# Altium schematic symbol library Galio-complete.SchLib: 51 symbols
Pins are listed as number, name and electrical type; pins without a type are passive.

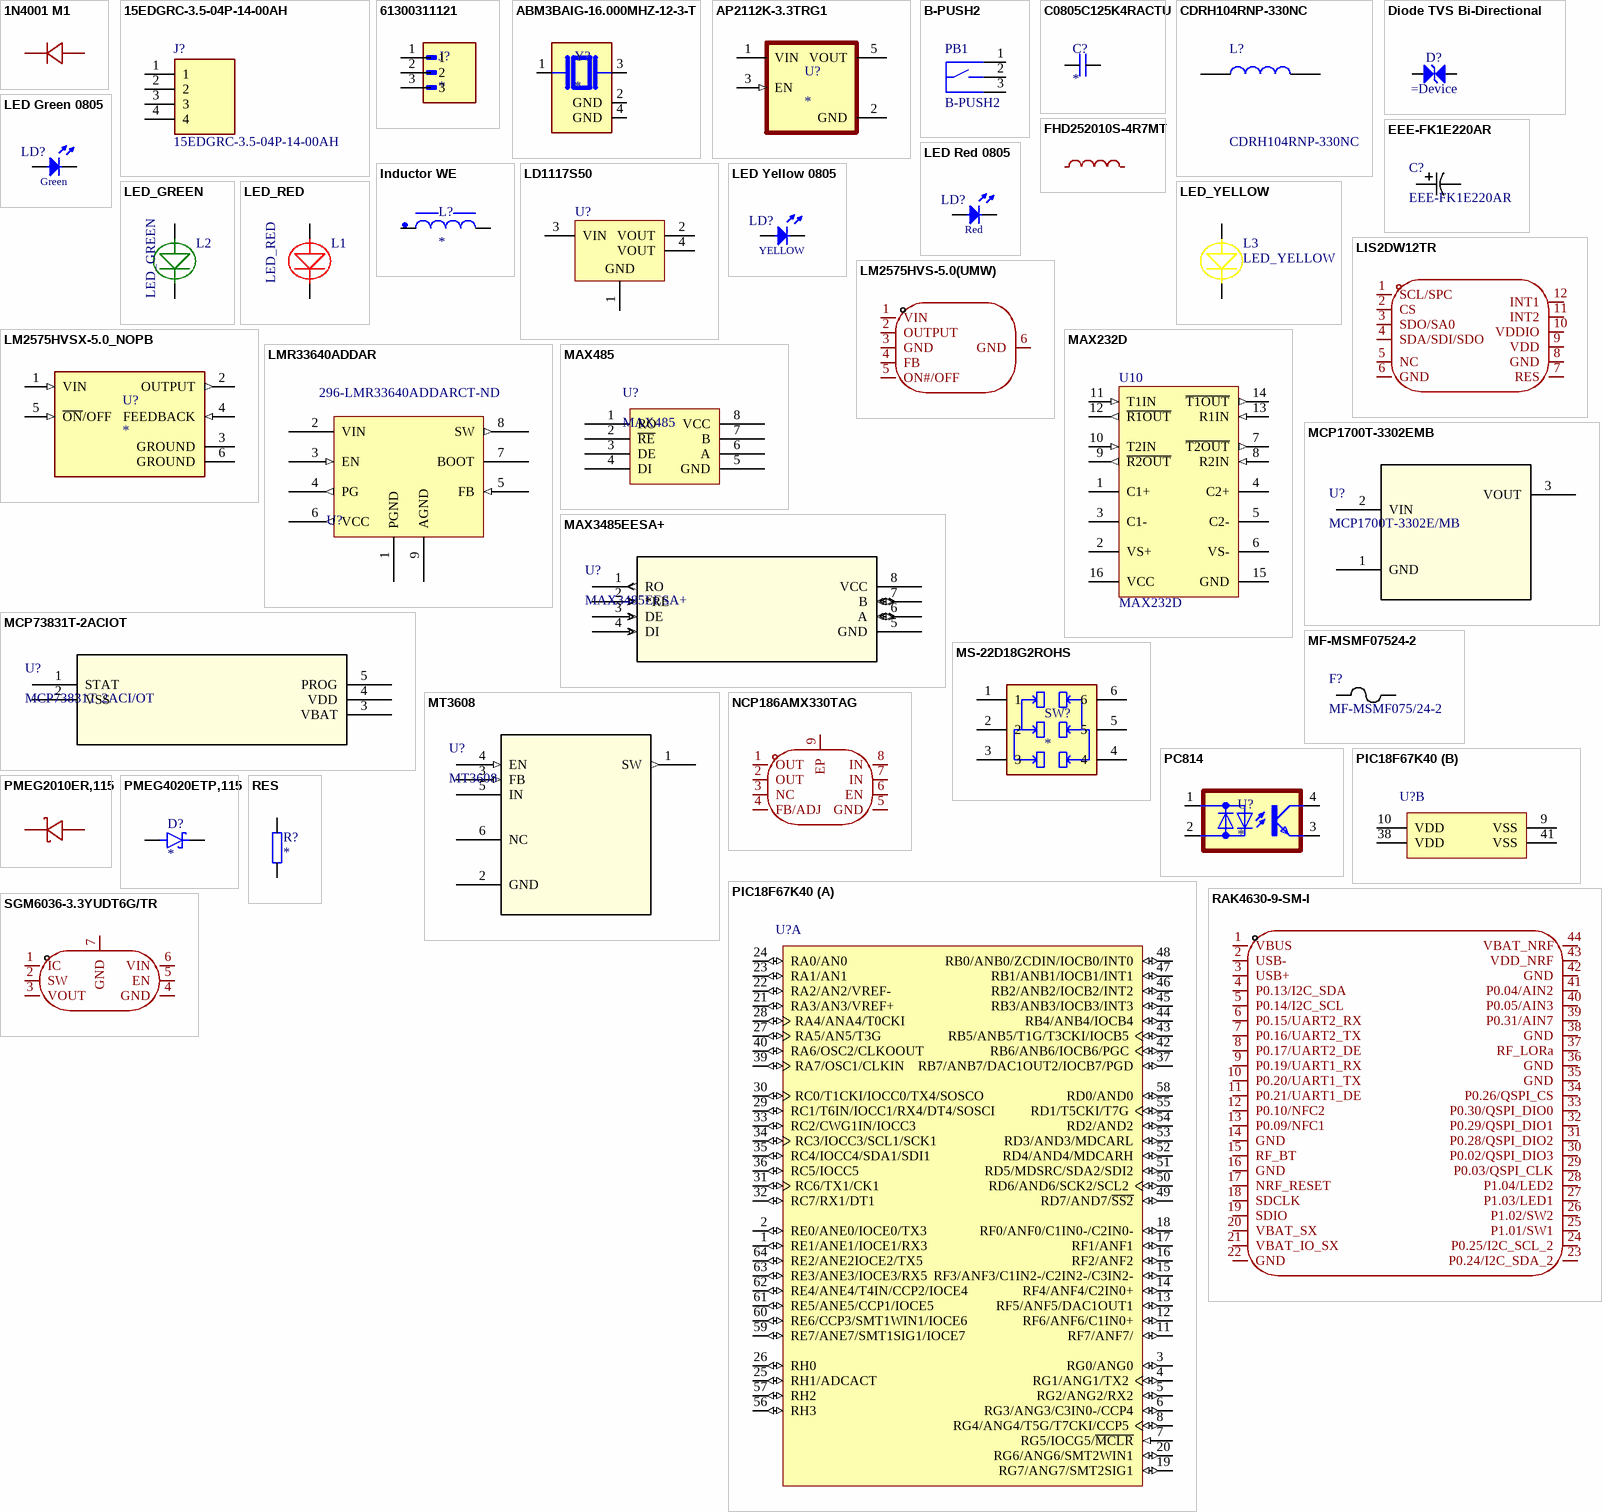
[diagram p0: symbols 1N4001 M1 to SGM6036-3.3YUDT6G/TR]

## 1N4001 M1
designator D?  (value not drawn)
Manufacturer: JSMSEMI(杰盛微); Add into BOM: yes; Diode Configuration: Independent; Voltage - Forward(Vf@If): 1V@1A; Voltage - DC Reverse(Vr): 50V; Current - Rectified: 1A; Reverse Leakage Current (Ir): 5uA@50V; Operating Junction Temperature Range: -55℃~+150℃; Symbol: 1N4001 M1; Device: 1N4001 M1; LCSC Part Name: 50V 1A; Supplier Part: C20754789; Manufacturer Part: 1N4001 M1; Supplier Footprint: SMA; JLCPCB Part Class: Extended Part; Datasheet: https://item.szlcsc.com/datasheet/1N4001%2520M1/22168790.html; Supplier: LCSC; Convert to PCB: yes
footprint SMA_L4.5-W2.7-LS5.2-RD
3D model SMA_L4.5-W2.7-LS5.2-RD
pins: 1 K, 2 A

## 15EDGRC-3.5-04P-14-00AH
designator J?
Pluggable terminal block; 3.5mm; ways: 4; angled 90; socket; male; Manufacturer_Name: Degson; Geometry.Height: 7.15mm; Manufacturer_Part_Number: 15EDGRC-3.5-04P-14-00AH; Mouser Part Number: *; Mouser Price/Stock: *; Arrow Part Number: *; Arrow Price/Stock: *; Datasheet Link: https://asset.conrad.com/media10/add/160267/c1/-/en/001327338DS01/datasheet-1327338-degson-socket-enclosure-pcb-total-number-of-pins-4-contact-spacing-35-mm-15edgrc-35-04p-14-00ah-1-pcs.pdf
footprint SHDRRA4W80P0X350_1X4_1480X920X715P
pins: 1, 2, 3, 4

## 61300311121
designator J?
MP: 61300311121; Package: None; Price: None; Value: *; Availability: Unavailable
footprint WURTH_61300311121
pins: 1, 2, 3

## ABM3BAIG-16.000MHZ-12-3-T
designator Y?
16 MHz ±20ppm Crystal 12pF 50 Ohms 4-SMD, No Lead; MF: Abracon LLC; MP: ABM3BAIG-16.000MHZ-12-3-T; SnapEDA_Link: https://www.snapeda.com/parts/ABM3BAIG-16.000MHZ-12-3-T/Abracon+LLC/view-part/?ref=snap; Package: SMD-4 Abracon; Value: *; Check_prices: https://www.snapeda.com/parts/ABM3BAIG-16.000MHZ-12-3-T/Abracon+LLC/view-part/?ref=eda
footprint XTAL_ABM3BAIG-16.000MHZ-12-3-T
pins: 1, 2 GND (power), 3 2, 4 GND (power)

## AP2112K-3.3TRG1
designator U?
Linear Voltage Regulator IC Positive Fixed 1 Output 600mA SOT-25; MF: Diodes Inc.; MP: AP2112K-3.3TRG1; Value: *; Purchase-URL: https://pricing.snapeda.com/search/part/AP2112K-3.3TRG1/?ref=eda; Package: SOT-753 Diodes Inc.; Availability: In Stock; Check_prices: https://www.snapeda.com/parts/AP2112K-3.3TRG1/Diodes+Inc./view-part/?ref=eda; Price: None; SnapEDA_Link: https://www.snapeda.com/parts/AP2112K-3.3TRG1/Diodes+Inc./view-part/?ref=snap
footprint SOT95P285X140-5N
pins: 1 VIN (power), 2 GND (power), 3 EN (in), 5 VOUT (power)

## B-PUSH2
designator PB1
footprint TS35CA (TACT SWITCHES SMT - SUBMINIATURE)
pins: 1, 2, 3

## C0805C125K4RACTU
designator C?
CAPACITOR, 0805; MF: KEMET; MP: C0805C125K4RACTU; SnapEDA_Link: https://www.snapeda.com/parts/C0805C125K4RACTU/Kemet/view-part/?ref=snap; Package: 805-2 KEMET; Value: *; Check_prices: https://www.snapeda.com/parts/C0805C125K4RACTU/Kemet/view-part/?ref=eda
footprint CAPC2012X110N
pins: 1, 2

## CDRH104RNP-330NC
designator L?
Power Inductors - SMD 33uH 2.2A,33 H Shielded Inductor 2.2 A 93mOhm Max Nonstandard; Manufacturer_Name: Sumida; Geometry.Height: 4mm; Manufacturer_Part_Number: CDRH104RNP-330NC; Mouser Part Number: 851-CDRH104RNP-330NC; Mouser Price/Stock: https://www.mouser.co.uk/ProductDetail/Sumida/CDRH104RNP-330NC?qs=KlpbM3lUcZybZvlhH7RqIQ%3D%3D; Arrow Part Number: CDRH104RNP-330NC; Arrow Price/Stock: https://www.arrow.com/en/products/cdrh104rnp-330nc/sumida?region=nac; Datasheet Link: https://products.sumida.com/products/pdf/CDRH104R.pdf?t=1684247558
footprint CDRH104RNP330NC
pins: 1, 2

## Diode TVS Bi-Directional
designator D?
Transient Voltage Suppressor Diode (Bi-Directional)
footprint DIOM5126X229N
pins: 1 C, 2 A

## EEE-FK1E220AR
designator C?
Capacitor electrolítico aluminio SMD; Manufacturer_Name: Panasonic; Copyright: Copyright (C) 2026 Ultra Librarian. All rights reserved.; Manufacturer_Part_Number: EEE-FK1E220AR
footprint CAP_EEFK_C_PAN
pins: 1, 2

## FHD252010S-4R7MT
designator L?, comment 4.7uH  (value not drawn)
Manufacturer: cjiang(长江微电); Symbol: FHD252010S-4R7MT; Add into BOM: yes; Tolerance: ±20%; Saturation Current (Isat): 1.5A; DC Resistance (DCR): 255mΩ; Device: FHD252010S-4R7MT; LCSC Part Name: 4.7uH ±20% 1.5A; Supplier Part: C602005; Manufacturer Part: FHD252010S-4R7MT; Supplier Footprint: 1008; JLCPCB Part Class: Extended Part; Datasheet: https://atta.szlcsc.com/upload/public/pdf/source/20200609/C601990_BCEA243EC4DA0A9A288AA78A6DFB48A5.pdf; Supplier: LCSC; Convert to PCB: yes; Value: 4.7uH; Type: -; Ratings: -
footprint IND-SMD_L2.5-W2.0-VLS252012CX-150M
3D model IND-SMD_L2.5-W2.0-VLS252012CX-150M
pins: 1, 2

## Inductor WE
designator L?
WE-XHMI SMD 6030 3.3uH - WE-XHMI SMD 6060 6.8uH (SAME FOOTPRINT); MF: WÃ¼rth Elektronik; MP: 74439346068; SnapEDA_Link: https://www.snapeda.com/parts/74439346068/W%25C3%25BCrth+Elektronik+Midcom/view-part/?ref=snap; Package: Nonstandard WÃ¼rth Elektronik; Value: *; Check_prices: https://www.snapeda.com/parts/74439346068/W%25C3%25BCrth+Elektronik+Midcom/view-part/?ref=eda
footprint WE-XHMI_6060
footprint WE-XHMI_6030
pins: 1, 2

## LD1117S50
designator U?
Fixed Low Drop Positive Voltage Regulator, 5V, 4-Pin SOT-223, Tape and Reel; PartNumber: LD1117S50TR; DatasheetVersion: Nov-2011; PackageVersion: 2010; PackageReference: SOT-223; PackageDescription: 4-Pin SOT-223 Package, 6.5 x 3.5 mm Body, 2.3 mm Pitch, 7 mm Lead Span; ComponentLink1Description: Manufacturer URL; ComponentLink1URL: http://www.st.com; ComponentLink2Description: Datasheet; ComponentLink2URL: http://www.st.com/internet/com/TECHNICAL_RESOURCES/TECHNICAL_LITERATURE/DATASHEET/CD00000544.pdf
footprint sot-223
pins: 1 GND (power), 2 VOUT (power), 3 VIN (power), 4 VOUT (power)

## LED Green 0805
designator LD?
LED Green 0805
footprint LEDC2012X70N
pins: 1 C, 2 A
text: Green

## LED Red 0805
designator LD?
LED Red 0805
footprint LEDC2012X70N
pins: 1 C, 2 A
text: Red

## LED Yellow 0805
designator LD?
LED Yellow 0805
footprint LEDC2012X70N
pins: 1 C, 2 A
text: YELLOW

## LED_GREEN
designator L2
footprint LED(S)
footprint LED_RA
footprint LED_SMT_G_Y
footprint 1206_LED_green
footprint LED-SMD_L2.1-W1.0-RD_GREEN
footprint LED_0805_GREEN
pins: 1, 2

## LED_RED
designator L1
footprint 1206_LED_RED
footprint LED-SMD_L2.1-W1.0-RD_RED
pins: 1, 2

## LED_YELLOW
designator L3
footprint 1206_LED_YELLOW
footprint LED-SMD_L2.1-W1.0-RD_yellow
pins: 1, 2

## LIS2DW12TR
designator U?  (value not drawn)
Manufacturer: ST(意法半导体); Add into BOM: yes; Axial Direction: X,Y,Z; Supply Voltage: 1.62V~3.6V; Symbol: LIS2DW12TR; Device: LIS2DW12TR; LCSC Part Name: LIS2DW12TR; Supplier Part: C189624; Manufacturer Part: LIS2DW12TR; Supplier Footprint: LGA-12(2x2); JLCPCB Part Class: Extended Part; Datasheet: https://atta.szlcsc.com/upload/public/pdf/source/20180403/C189624_150963097ED842400E055DE40577DCB1.pdf; Supplier: LCSC; Convert to PCB: yes; Operating Temperature: -40℃~+85℃
footprint LGA-12_L2.0-W2.0-P0.50-BL
3D model LGA-12_L2.0-W2.0-H1.0-P0.50
pins: 1 SCL/SPC, 2 CS, 3 SDO/SA0, 4 SDA/SDI/SDO, 5 NC, 6 GND, 7 RES, 8 GND, 9 VDD, 10 VDDIO, 11 INT2, 12 INT1

## LM2575HVS-5.0(UMW)
designator U?  (value not drawn)
Manufacturer: UMW(友台半导体); Symbol: LM2575HVS-5.0_C347429; Add into BOM: yes; Function: Buck; Voltage - Supply: 40V; Output Voltage: 5V; Output Current: 2A; Frequency - Switching: 150kHz; Synchronous Rectifier: No; Number of Outputs: 1; Quiescent Current: 80uA; Switch tube (built-in/external): Built-in; Output Type: Fixed; Device: LM2575HVS-5.0(UMW); LCSC Part Name: 降压型 2A 40V; Supplier Part: C347429; Manufacturer Part: LM2575HVS-5.0(UMW); Supplier Footprint: TO-263-5; JLCPCB Part Class: Extended Part; Datasheet: https://item.szlcsc.com/datasheet/LM2575HVS-5.0(UMW)/324089.html; Supplier: LCSC; Convert to PCB: yes; Operating Temperature: -40℃~+125℃@(TA); Topology: Buck
footprint TO-263-5_L10.0-W8.4-P1.70-LS15.3-BR
3D model TO-263-5_L10.0-W8.4-P1.70-LS15.3-BR
pins: 1 VIN, 2 OUTPUT, 3 GND, 4 FB, 5 ON#/OFF, 6 GND

## LM2575HVSX-5.0_NOPB
designator U?
Buck Switching Regulator IC Positive Fixed 5V 1 Output 2A TO-263-6, D2PAK (5 Leads + Tab), TO-263BA; MF: UMW; MP: LM2575S-5.0; SnapEDA_Link: https://www.snapeda.com/parts/LM2575S-5.0/UMW/view-part/?ref=snap; Package: None; Value: *; Check_prices: https://www.snapeda.com/parts/LM2575S-5.0/UMW/view-part/?ref=eda
footprint VREG_LM2575HVSX-5.0_NOPB
pins: 1 VIN (in), 2 OUTPUT (out), 3 GROUND (power), 4 FEEDBACK (in), 5 ~{ON}/OFF (in), 6 GROUND (power)

## LMR33640ADDAR
designator U?  Supplier Part Number 1: 296-LMR33640ADDARCT-ND
LMR33640 SIMPLE SWITCHER® 3.8-V to 36-V, 4-A Synchronous Step-down Converter; Supplier 1: DigiKey
footprint ESOP-8
pins: 1 PGND "Power ground", 2 VIN (power), 3 EN (in), 4 PG (out), 5 FB (in), 6 VCC (out), 7 BOOT, 8 SW (out), 9 AGND

## MAX232D
designator U10
Dual EIA-232 Driver / Receiver, 0 to 70 degC, 16-Pin SOIC (D), Green (RoHS & no Sb/Br); SubFamily: RS-232; Drivers Per Package: 2; Supply Voltage(s)(V): 5; ESD HBM(kV): +/-2; ICC(Max)(mA): 10; Single Supply: TRUE; DatasheetVersion: SLLS047L; PackageVersion: revM, Jun-2011; PackageReference: D16; PackageDescription: 16-Pin Plastic Small Outline Integrated Circuit, 9.9 x 3.9 mm, Pitch 1.27 mm Pitch; Receivers Per Package: 2; RS-232: TRUE; ComponentLink1Description: Manufacturer URL; ComponentLink1URL: www.ti.com; ComponentLink2Description: Datasheet; ComponentLink2URL: http://www.ti.com/general/docs/lit/getliterature.tsp?genericPartNumber=MAX232&fileType=pdf; ComponentLink3Description: Package Specification; ComponentLink3URL: http://www.ti.com/litv/pdf/mpds178g
footprint SOIC-16_N (SOIC, 16-Leads, Body 9.9x3.9mm, Pitch 1.27mm, IPC Medium Density)
pins: 1 C1+, 2 VS+ (power), 3 C1-, 4 C2+, 5 C2-, 6 VS- (power), 7 ~{T2OUT} (out), 8 R2IN (in), 9 ~{R2OUT} (out), 10 T2IN (in), 11 T1IN (in), 12 ~{R1OUT} (out), 13 R1IN (in), 14 ~{T1OUT} (out), 15 GND (power), 16 VCC (power)

## MAX485
designator U?
footprint SOIC8-N_MC
pins: 1 RO, 2 ~{RE}, 3 DE, 4 DI, 5 GND (power), 6 A, 7 B, 8 VCC (power)

## MAX3485EESA+
designator U?
3.3V Powered, Â±15kV ESD-Protected, 12Mbps, Slew-Rate-Limited True RS-485/RS-422 Transceivers; Manufacturer_Name: Analog Devices Inc; Copyright: Copyright (C) 2026 Ultra Librarian. All rights reserved.; Manufacturer_Part_Number: MAX3485EESA+; RefDes: RefDes; Type: Type
footprint 21-0041B_8_MXM
pins: 1 RO (out), 2 *RE (in), 3 DE (in), 4 DI (in), 5 GND (power), 6 A (io), 7 B (io), 8 VCC (power)

## MCP1700T-3302EMB
designator U?, comment MCP1700T-3302E/MB
Linear Voltage Regulators; Manufacturer_Name: Microchip; Copyright: Copyright (C) 2026 Ultra Librarian. All rights reserved.; Manufacturer_Part_Number: MCP1700T-3302E/MB; RefDes: RefDes; Type: Type
footprint SOT-89_3MC_MCH
pins: 1 GND, 2 VIN, 3 VOUT

## MCP73831T-2ACIOT
designator U?, comment MCP73831T-2ACI/OT
Series Single-Cell Li-Ion/Li-Polymer Battery Charge Controller; Manufacturer_Name: Microchip; Copyright: Copyright (C) 2025 Ultra Librarian. All rights reserved.; Manufacturer_Part_Number: MCP73831T-2ACI/OT; RefDes: RefDes; Type: Type
footprint SOT-23-5_MC_MCH-M
pins: 1 STAT, 2 VSS, 3 VBAT, 4 VDD, 5 PROG

## MF-MSMF07524-2
designator F?, comment MF-MSMF075/24-2
Fuse; Manufacturer_Name: Bourns Electronics; Copyright: Copyright (C) 2026 Ultra Librarian. All rights reserved.; Manufacturer_Part_Number: MF-MSMF075/24-2
footprint FUSE_MF-MSMF07524-2_BRN
pins: 1, 2

## MS-22D18G2ROHS
designator SW?
Interruptor deslizante, 2 posiciones.; MF: Deyilong; MP: MS-22D18 G2 ROHS; SnapEDA_Link: https://www.snapeda.com/parts/MS-22D18%20G2%20ROHS/Deyilong/view-part/?ref=snap; Package: None; Value: *; Check_prices: https://www.snapeda.com/parts/MS-22D18%20G2%20ROHS/Deyilong/view-part/?ref=eda
footprint SW_MS-22D18G2ROHS (Interruptor deslizante)
pins: 1, 2, 3, 4, 5, 6

## MT3608
designator U?
DC-DC step-up; Manufacturer_Name: Aerosemi; Copyright: Copyright (C) 2025 Ultra Librarian. All rights reserved.; Manufacturer_Part_Number: MT3608; RefDes: RefDes; Type: Type
footprint TSOT23-6SOT23-6_AER
pins: 1 SW (out), 2 GND (power), 3 FB (in), 4 EN (in), 5 IN (power), 6 NC

## NCP186AMX330TAG
designator U?  (value not drawn)
Manufacturer: onsemi(安森美); Add into BOM: yes; Output Type: Fixed; Voltage - Supply: 5.5V; Output Voltage: 3.3V; Output Current: 1A; Power Supply Rejection Ratio (PSRR): 75dB@(1kHz); Noise: 48uVrms; Output Configuration: Positive; Number of Outputs: 1; Symbol: NCP186AMX330TAG; Device: NCP186AMX330TAG; LCSC Part Name: NCP186AMX330TAG; Supplier Part: C719823; Manufacturer Part: NCP186AMX330TAG; Supplier Footprint: XDFN8(1.2x1.6); JLCPCB Part Class: Extended Part; Datasheet: https://item.szlcsc.com/datasheet/NCP186AMX330TAG/762682.html; Supplier: LCSC; Convert to PCB: yes; Voltage Dropout: -; standby current: -; Features: Short Circuit Protection；Over Current Protection；Enable；Over Temperature Protection; Operating Temperature: -40℃~+125℃@(Tj)
footprint XDFN-8_L1.6-W1.2-P0.40-BL-EP
3D model XDFN-8_L1.6-W1.2-H0.4-P0.40-BL-EP
pins: 1 OUT, 2 OUT, 3 NC, 4 FB/ADJ, 5 GND, 6 EN, 7 IN, 8 IN, 9 EP

## PC814
designator U?
Optoacoplador com saÃ­da de transistor de 5000Vrms, 1 canal, 4 componentes SMD.; MF: Essentra Components; MP: PC814; SnapEDA_Link: https://www.snapeda.com/parts/PC814/Essentra/view-part/?ref=snap; Package: DIP-4 SHARP/Socle Technology; Value: *; Check_prices: https://www.snapeda.com/parts/PC814/Essentra/view-part/?ref=eda
footprint PC814BS
pins: 1 AC1, 2 AC2, 3 E, 4 C

## PIC18F67K40
designator U?
High-Performance, 1-Mbit Enhanced Flash MCU with 12-Bit A/D and nanoWatt XLP Technology, 64 MHz, 53 I/O, -40 to 125 degC, 64-pin TQFP (PT64), Tray; Manufacturer: Microchip; PartNumber: PIC18F67K22-E/PT; # of A/D Channels: 16; Digital Communication: 2 -A/E/USART, 2 -MSSP(SPI/I2C); EEPROM Data Memory (bytes): 1024; I/O Pins: 53; Internal Oscillator: 16 MHz, 31 kHz; Max. CPU Speed MHz: 64; Operation Voltage Range: 1.8V - 5.5V; Program Memory KBytes: 128; RAM: 3862; Timers: 6 - 8-bit, 5 - 16-bit; DatasheetVersion: Rev. D; PackageVersion: C04-085B, 12/2012; PackageReference: TQFP-PT64; PackageDescription: 64-Lead Plastic Thin Quad FlatPack, 10 x 10 mm Body, 0.5 mm Pitch; Supplier 1: Digi-Key; Supplier Part Number 1: PIC18F67K22-E/PT-ND; Supplier 2: Newark; Supplier Part Number 2: 53R0279; Supplier 3: Mouser; Supplier Part Number 3: 579-PIC18F67K22-E/PT; Memory Type: Flash; Packing: TRAY; Program Memory KWords: 64; RoHS: TRUE; Mounting Technology: Surface Mount; ComponentLink1Description: Datasheet; ComponentLink1URL: http://ww1.microchip.com/downloads/en/DeviceDoc/39960d.pdf; ComponentLink2Description: Package Specification; ComponentLink2URL: http://www.microchip.com/stellent/groups/techpub_sg/documents/packagingspec/en012702.pdf; ComponentLink3Description: URL Link1; ComponentLink3URL: Product URL:http://www.microchip.com/datasheet/PIC18F67K22
footprint TQFP-PT64_N (TQFP, 64-Leads, Body 10x10mm, Pitch 0.5mm, IPC Medium Density)
part A pins: 1 RE1/ANE1/IOCE1/RX3 (io), 2 RE0/ANE0/IOCE0/TX3 (io), 3 RG0/ANG0 (io), 4 RG1/ANG1/TX2 (io), 5 RG2/ANG2/RX2 (io), 6 RG3/ANG3/C3IN0-/CCP4 (io), 7 RG5/IOCG5/~{MCLR} (in), 8 RG4/ANG4/T5G/T7CKI/CCP5 (io), 11 RF7/ANF7/ (io), 12 RF6/ANF6/C1IN0+ (io), 13 RF5/ANF5/DAC1OUT1 (io), 14 RF4/ANF4/C2IN0+ (io), 15 RF3/ANF3/C1IN2-/C2IN2-/C3IN2- (io), 16 RF2/ANF2 (io), 17 RF1/ANF1 (io), 18 RF0/ANF0/C1IN0-/C2IN0- (io), 19 RG7/ANG7/SMT2SIG1 (io), 20 RG6/ANG6/SMT2WIN1 (io), 21 RA3/AN3/VREF+ (io), 22 RA2/AN2/VREF- (io), 23 RA1/AN1 (io), 24 RA0/AN0 (io), 25 RH1/ADCACT (io), 26 RH0 (io), 27 RA5/AN5/T3G (io), 28 RA4/ANA4/T0CKI (io), 29 RC1/T6IN/IOCC1/RX4/DT4/SOSCI (io), 30 RC0/T1CKI/IOCC0/TX4/SOSCO (io), 31 RC6/TX1/CK1 (io), 32 RC7/RX1/DT1 (io), 33 RC2/CWG1IN/IOCC3 (io), 34 RC3/IOCC3/SCL1/SCK1 (io), 35 RC4/IOCC4/SDA1/SDI1 (io), 36 RC5/IOCC5 (io), 37 RB7/ANB7/DAC1OUT2/IOCB7/PGD (io), 39 RA7/OSC1/CLKIN (io), 40 RA6/OSC2/CLKOOUT (io), 42 RB6/ANB6/IOCB6/PGC (io), 43 RB5/ANB5/T1G/T3CKI/IOCB5 (io), 44 RB4/ANB4/IOCB4 (io), 45 RB3/ANB3/IOCB3/INT3 (io), 46 RB2/ANB2/IOCB2/INT2 (io), 47 RB1/ANB1/IOCB1/INT1 (io), 48 RB0/ANB0/ZCDIN/IOCB0/INT0 (io), 49 RD7/AND7/~{SS2} (io), 50 RD6/AND6/SCK2/SCL2 (io), 51 RD5/MDSRC/SDA2/SDI2 (io), 52 RD4/AND4/MDCARH (io), 53 RD3/AND3/MDCARL (io), 54 RD2/AND2 (io), 55 RD1/T5CKI/T7G (io), 56 RH3 (io), 57 RH2 (io), 58 RD0/AND0 (io), 59 RE7/ANE7/SMT1SIG1/IOCE7 (io), 60 RE6/CCP3/SMT1WIN1/IOCE6 (io), 61 RE5/ANE5/CCP1/IOCE5 (io), 62 RE4/ANE4/T4IN/CCP2/IOCE4 (io), 63 RE3/ANE3/IOCE3/RX5 (io), 64 RE2/ANE2IOCE2/TX5 (io)
part B pins: 9 VSS (power) "Ground reference for logic and I/O pins.", 10 VDD (power) "Positive supply for logic and I/O pins.", 38 VDD (power) "Positive supply for logic and I/O pins.", 41 VSS (power) "Ground reference for logic and I/O pins."

## PMEG2010ER,115
designator D?  (value not drawn)
Manufacturer: Nexperia(安世); Add into BOM: yes; Diode Configuration: 1 Independent; Voltage - Forward(Vf@If): 340mV@1A; Voltage - DC Reverse(Vr): 20V; Current - Rectified: 1A; Reverse Leakage Current (Ir): 1mA@20V; Non-Repetitive Peak Forward Surge Current: 50A; Symbol: PMEG2010ER,115; Device: PMEG2010ER,115; LCSC Part Name: 电压:20V 电流:1A; Supplier Part: C82288; Manufacturer Part: PMEG2010ER,115; Supplier Footprint: SOD-123W; JLCPCB Part Class: Extended Part; Datasheet: https://item.szlcsc.com/datasheet/PMEG2010ER%252C115/83445.html; Supplier: LCSC; Convert to PCB: yes
footprint SOD-123_L2.6-W1.7-LS3.5-RD
3D model SOD-123_L2.6-W1.7-LS3.5-RD
pins: 1 C, 2 A

## PMEG4020ETP,115
designator D?
Diode Schottky 40V 2A Surface Mount SOD-128/CFP5; MF: Nexperia USA; MP: PMEG4020ETP,115; SnapEDA_Link: https://www.snapeda.com/parts/PMEG4020ETP,115/Nexperia/view-part/?ref=snap; Package: CFP5-2 Nexperia USA Inc.; Value: *; Check_prices: https://www.snapeda.com/parts/PMEG4020ETP,115/Nexperia/view-part/?ref=eda
footprint SODFL4725X110N
footprint DIODE_DO214AC (Diodo Schottky 1A 40V -- AA)
pins: 1 K, 2 A

## RAK4630-9-SM-I
designator U?, comment -  (value not drawn)
Manufacturer: RAK(瑞科慧联); Symbol: RAK4630-9-SM-I; Add into BOM: yes; Interface Type: GPIO；I2C；UART；USB; Modulation System: LoRa；BLE; Voltage - Supply: 2V~3.6V; Receive  Current: 2.22mA; Send  Current: 67.8mA; Device: RAK4630-9-SM-I; LCSC Part Name: RAK4630-9-SM-I; Supplier Part: C33033533; Manufacturer Part: RAK4630-9-SM-I; Supplier Footprint: SMD,23x15mm; JLCPCB Part Class: Extended Part; Datasheet: https://item.szlcsc.com/datasheet/RAK4630-9-SM-I/34766931.html; Supplier: LCSC; Convert to PCB: yes; Value: -; Output Power: -; Antenna Type: -; Sensitivity: -; Communication Distance: -; Operating Temperature: -40℃~+85℃
footprint RAK4630-8-SM-I
pins: 1 VBUS, 2 USB-, 3 USB+, 4 P0.13/I2C_SDA, 5 P0.14/I2C_SCL, 6 P0.15/UART2_RX, 7 P0.16/UART2_TX, 8 P0.17/UART2_DE, 9 P0.19/UART1_RX, 10 P0.20/UART1_TX, 11 P0.21/UART1_DE, 12 P0.10/NFC2, 13 P0.09/NFC1, 14 GND, 15 RF_BT, 16 GND, 17 NRF_RESET, 18 SDCLK, 19 SDIO, 20 VBAT_SX, 21 VBAT_IO_SX, 22 GND, 23 P0.24/I2C_SDA_2, 24 P0.25/I2C_SCL_2, 25 P1.01/SW1, 26 P1.02/SW2, 27 P1.03/LED1, 28 P1.04/LED2, 29 P0.03/QSPI_CLK, 30 P0.02/QSPI_DIO3, 31 P0.28/QSPI_DIO2, 32 P0.29/QSPI_DIO1, 33 P0.30/QSPI_DIO0, 34 P0.26/QSPI_CS, 35 GND, 36 GND, 37 RF_LORa, 38 GND, 39 P0.31/AIN7, 40 P0.05/AIN3, 41 P0.04/AIN2, 42 GND, 43 VDD_NRF, 44 VBAT_NRF

## RES
designator R?
footprint RESC2013X84N (Chip Resistor, EIA 0805, Metric 2013, Body 2.03x1.27mm, IPC Medium Density)
pins: 1, 2

## SGM6036-3.3YUDT6G/TR
designator U?  (value not drawn)
Manufacturer: SGMICRO(圣邦微); Add into BOM: yes; Function: Buck; Voltage - Supply: 1.8V~5.5V; Output Voltage: 3.3V; Output Current: 600mA; Frequency - Switching: 1.4MHz; Number of Outputs: 1; Quiescent Current: 450nA; Switch tube (built-in/external): Built-In; Output Type: Fixed; Symbol: SGM6036-3.3YUDT6G/TR; Device: SGM6036-3.3YUDT6G/TR; LCSC Part Name: 输出电流达600mA、功耗低至450nA的超微功耗降压转换器; Supplier Part: C5153601; Manufacturer Part: SGM6036-3.3YUDT6G/TR; Supplier Footprint: UTDFN-6L(1.5x2); JLCPCB Part Class: Extended Part; Datasheet: https://item.szlcsc.com/datasheet/SGM6036-3.3YUDT6G%252FTR/5780329.html; Supplier: LCSC; Convert to PCB: yes; Operating Temperature: -40℃~+85℃@(TA); Synchronous Rectifier: Yes; Topology: Buck
footprint UTDFN-6_L2.0-W1.5-P0.50-BL-EP
3D model UTDFN-6_L2.0-W1.5-P0.50-BL-EP
pins: 1 IC, 2 SW, 3 VOUT, 4 GND, 5 EN, 6 VIN, 7 GND

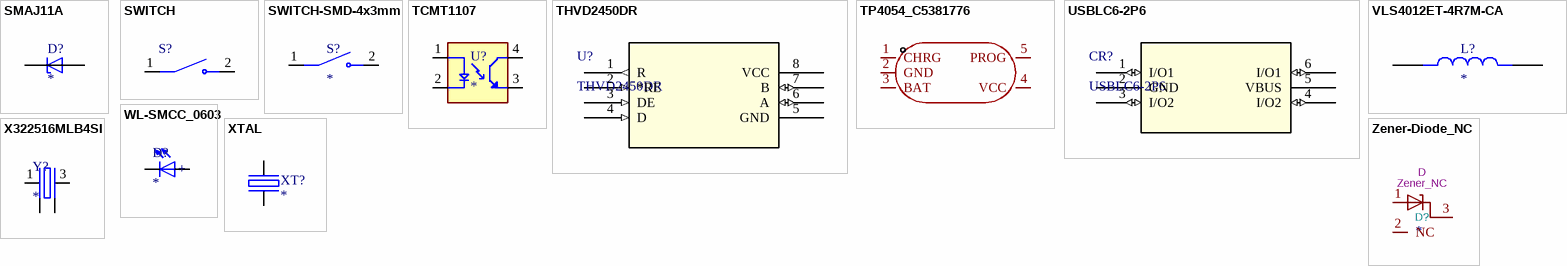
[diagram p1: symbols SMAJ11A to Zener-Diode_NC]

## SMAJ11A
designator D?
11 TVS Diode Surface Mount DO-214AC (SMA); MF: Bourns; MP: SMAJ11A; SnapEDA_Link: https://www.snapeda.com/parts/SMAJ11A/Bourns/view-part/?ref=snap; Package: DO-214 Bourns; Value: *; Check_prices: https://www.snapeda.com/parts/SMAJ11A/Bourns/view-part/?ref=eda
footprint DIOM4325X250N
pins: A, C

## SWITCH
designator S?, comment TS-1088-AR02016  (value not drawn)
50mA 4mm 100MÎ© 100,000 Times 12V 160gf 3mm 2mm Round Button Vertical welding SPST SMD Tactile Switches ROHS; MF: Xunpu; SnapEDA_Link: https://www.snapeda.com/parts/TS-1088-AR02016/Xunpu/view-part/?ref=snap; Package: Package; Value: *; MP: TS-1088-AR02016; Check_prices: https://www.snapeda.com/parts/TS-1088-AR02016/Xunpu/view-part/?ref=eda
footprint SW_TS-1088-AR02016
pins: 1, 2

## SWITCH-SMD-4x3mm
designator S?
50mA 4mm 100MÎ© 100,000 Times 12V 160gf 3mm 2mm Round Button Vertical welding SPST SMD Tactile Switches ROHS; MF: Xunpu; MP: TS-1088-AR02016; SnapEDA_Link: https://www.snapeda.com/parts/TS-1088-AR02016/Xunpu/view-part/?ref=snap; Package: Package; Value: *; Check_prices: https://www.snapeda.com/parts/TS-1088-AR02016/Xunpu/view-part/?ref=eda
footprint SWITCH-SMD-4x3mm
pins: 1, 2

## TCMT1107
designator U?
Optoisolator Transistor Output 3750Vrms 1 Channel 4-SOP; MF: Vishay Semiconductor; MP: TCMT1107; SnapEDA_Link: https://www.snapeda.com/parts/TCMT1107/Vishay/view-part/?ref=snap; Package: SOP-4 Vishay Semiconductor; Value: *; Check_prices: https://www.snapeda.com/parts/TCMT1107/Vishay/view-part/?ref=eda
footprint SOIC127P700X230-4N
pins: 1 A, 2 C, 3 ET, 4 CT

## THVD2450DR
designator U?
Transceiver Half RS422, RS485 SOIC-8; Manufacturer_Name: Texas Instruments; Copyright: Copyright (C) 2025 Ultra Librarian. All rights reserved.; Manufacturer_Part_Number: THVD2450DR; RefDes: RefDes; Type: Type
footprint SOIC8-N_MC
pins: 1 R (out), 2 *RE (in), 3 DE (in), 4 D (in), 5 GND (power), 6 A (io), 7 B (io), 8 VCC (power)

## TP4054_C5381776
designator U?, comment TP4054  (value not drawn)
Manufacturer: JSMSEMI(杰盛微); Symbol: TP4054_C5381776; Add into BOM: yes; The Chip Type: Charging IC; Voltage - Supply: 4.5V~5.5V; Charge Current - Max: 535mA; Charging Saturation Voltage: 4.2V; Type of Battery: Lithium Battery; Number of Cells: 1; Battery Temperature Detection: Not supported; Supply Current (Iq): 20uA; Device: TP4054_C5381776; LCSC Part Name: 座充充电管理IC; Supplier Part: C5381776; Manufacturer Part: TP4054; Supplier Footprint: SOT-23-5; JLCPCB Part Class: Extended Part; Datasheet: https://item.szlcsc.com/datasheet/TP4054/6251783.html; Supplier: LCSC; Convert to PCB: yes; End-Off Voltage: -; Operating Temperature: -65℃~+125℃; 0V Battery Charge: -; Balance Current: -; Interface: -; Features: Constant voltage charging；Constant current charging；Automatic recharge；Charge termination；Soft start；Programmable charging current；Undervoltage lockout；Trickle charging
footprint SOT-23-5_L2.9-W1.6-P0.95-LS2.8-BR
3D model SOT-23-5_L2.9-W1.6-P0.95-LS2.8-BR
pins: 1 CHRG, 2 GND, 3 BAT, 4 VCC, 5 PROG

## USBLC6-2P6
designator CR?
ESD Protection for USB 2.0 High Speed; Manufacturer_Name: STMicroelectronics; Copyright: Copyright (C) 2025 Ultra Librarian. All rights reserved.; Manufacturer_Part_Number: USBLC6-2P6; RefDes: RefDes; Type: Type
footprint SOT-666_STM
pins: 1 I/O1 (io), 2 GND (power), 3 I/O2 (io), 4 I/O2 (io), 5 VBUS (power), 6 I/O1 (io)

## VLS4012ET-4R7M-CA
designator L?
4.7 µH Shielded Drum Core, Wirewound Inductor 1.9 A 118mOhm Max Nonstandard; MF: TDK; MP: VLS4012ET-4R7M-CA; SnapEDA_Link: https://www.snapeda.com/parts/VLS4012ET-4R7M-CA/TDK/view-part/?ref=snap; Package: NON STANDARD-2 TDK; Value: *; Check_prices: https://www.snapeda.com/parts/VLS4012ET-4R7M-CA/TDK/view-part/?ref=eda
footprint IND_VLS4012ET-4R7M-CA
pins: 1, 2

## WL-SMCC_0603
designator D?
LED, GREEN, 60MCD, 573NM, SMD; LED Colour: Green; LED Mounting: SMD; LED Case Size: 0603; Forward Current If: 20mA; Forward Voltage: 2V; Wavelength Typ: 573nm; Luminous Intensity: 60mcd; Viewing Angle: 120Â°; Lens Shape: Rectangular; Product Range: WL-SMC; MF: WÃ¼rth Elektronik; MP: 150060VS73220; SnapEDA_Link: https://www.snapeda.com/parts/150060VS73220/W%25C3%25BCrth+Elektronik+Midcom/view-part/?ref=snap; Package: None; Value: *; Check_prices: https://www.snapeda.com/parts/150060VS73220/W%25C3%25BCrth+Elektronik+Midcom/view-part/?ref=eda
footprint WL-SMCC_0603
pins: 1 NEG, 2 POS
text: +

## X322516MLB4SI
designator Y?
External dimensions: 3.2 x 2.5 x 0.8 mm.Frequency range: 11.0592MHz ~54MHz; MF: YXC; MP: X322516MLB4SI; SnapEDA_Link: https://www.snapeda.com/parts/X322516MLB4SI/YXC/view-part/?ref=snap; Package: Package; Value: *; Check_prices: https://www.snapeda.com/parts/X322516MLB4SI/YXC/view-part/?ref=eda
footprint OSC_X322516MLB4SI
pins: 1, 2 GND (power), 3, 4 GND (power)

## XTAL
designator XT?
footprint XTAL
footprint XTAL_SMT
footprint XTAL_RAD
footprint XTAL_SMT_2
footprint XTAL_SMT_3
pins: 1, 2

## Zener-Diode_NC
designator D?  value Zener_NC  Reference: D
ki_keywords: Zener Dual Diode Common Anode; ki_description: Zener Dual Diode Common Anode
footprint SOT-23 (SOT23, 3-Leads, IPC Medium Density)
pins: 1 A, 2 NC, 3 C